# Altium integrated library Linear Technology PMIC-Switching Reg LTC1174-LTC3901.IntLib: 2647 symbols (part 133 of 310)
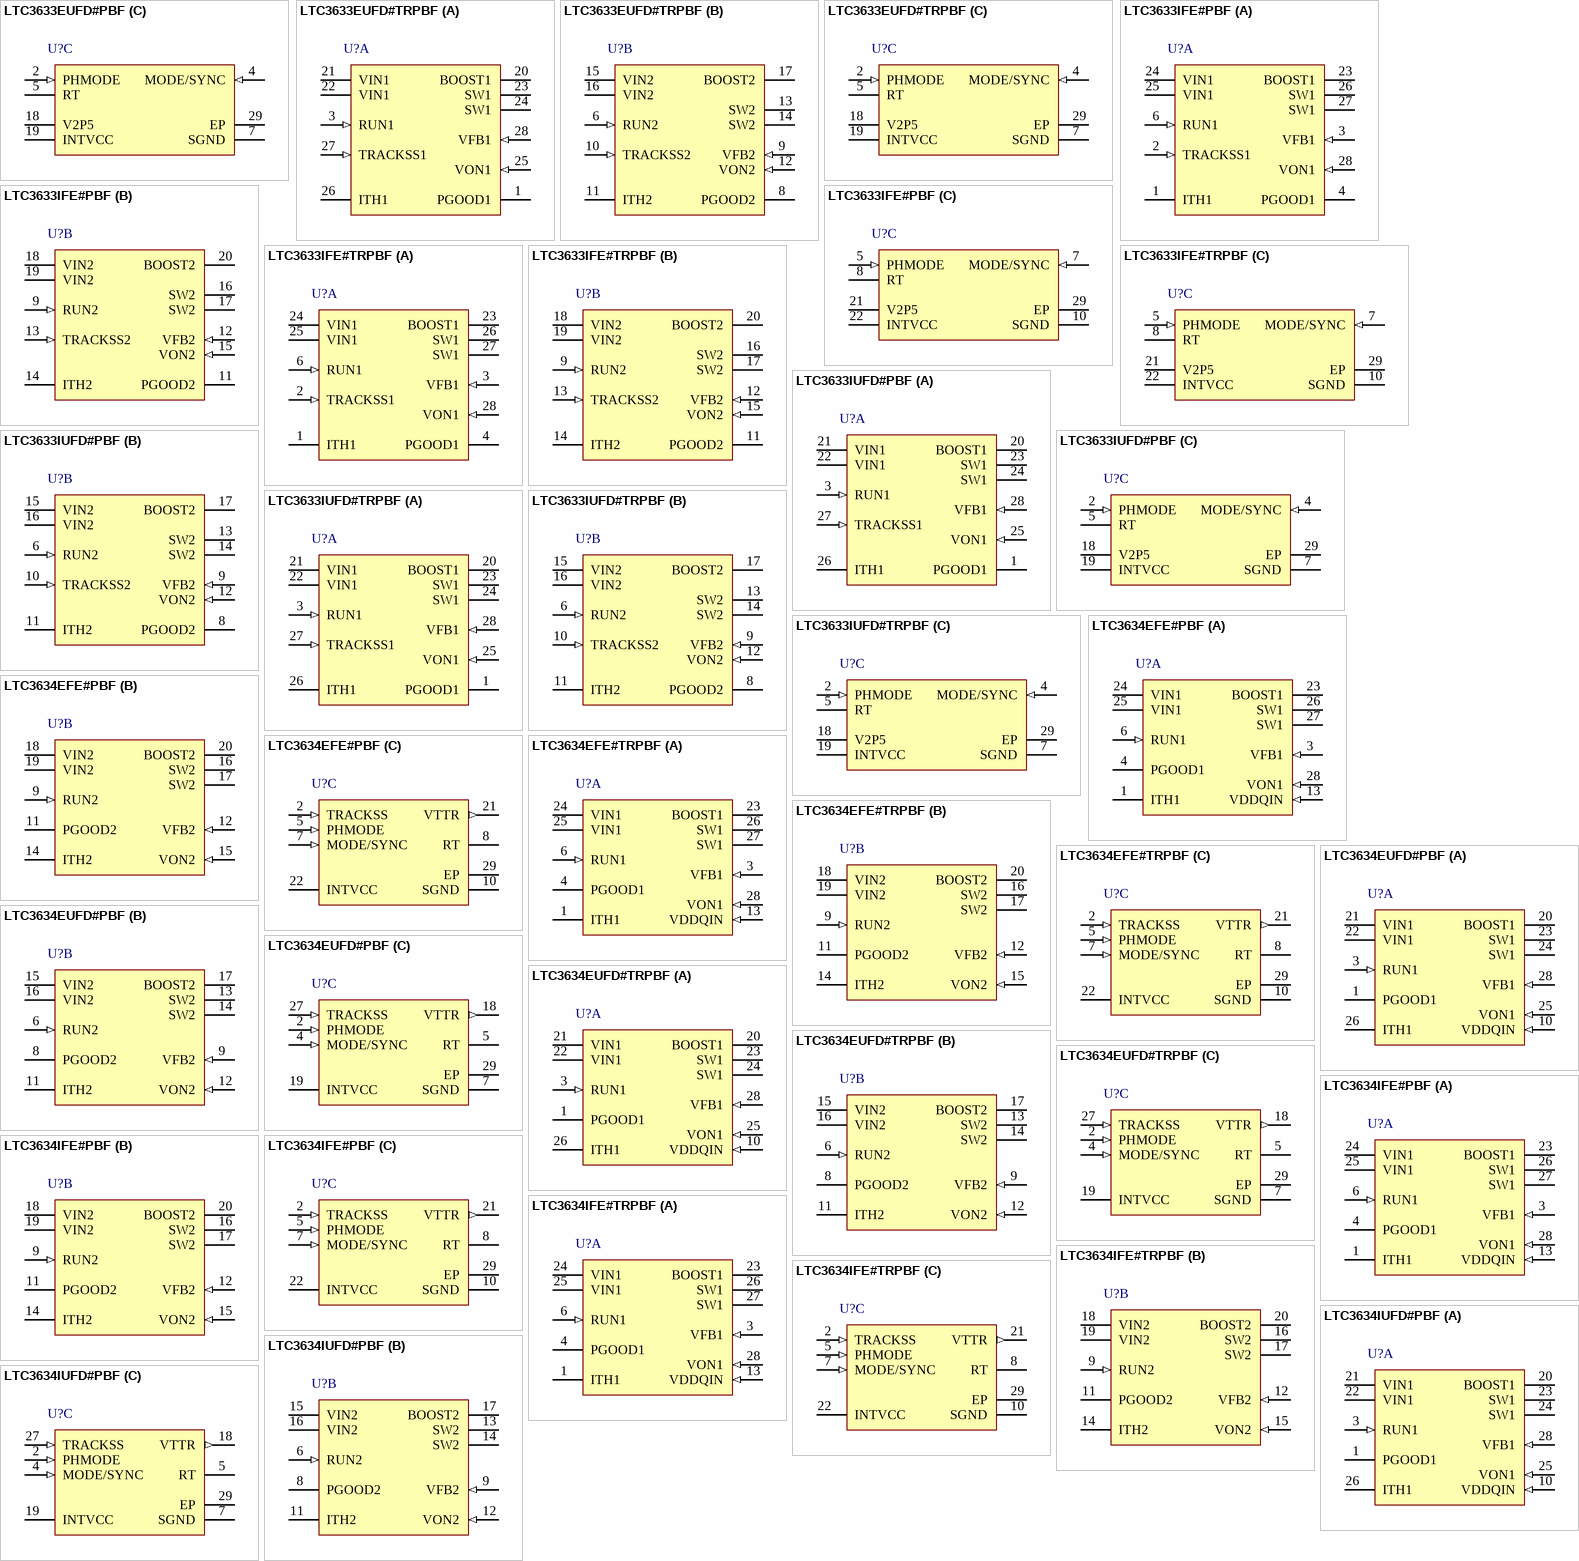
[diagram p191: symbols LTC3633EUFD#PBF to LTC3634IUFD#PBF]

## LTC3634EUFD#PBF
designator U?
Dual 3 A Monolithic Step-Down Regulator for DDR Power, 28-pin QFN (UFD-28), -40 to 125 degC, Pb-Free; Manufacturer: Linear Technology; PartNumber: LTC3634EUFD#PBF; Number of Outputs: 3; PackageReference: UFD-28; PackageDescription: 28-Pin Plastic QFN, Body 5 x 4 mm, Pitch 0.5 mm; Supplier 1: Digi-Key; Supplier Part Number 1: LTC3634EUFD#PBF-ND; RoHS: TRUE; Code_JEDEC: MO-220
footprint LT-UFD-28_N (QFN, 28-Leads, Body 5.1x4.1mm, Pitch 0.5mm, Thermal Pad 3.65x2.65mm, IPC Medium Density)
footprint LT-UFD-28_L (QFN, 28-Leads, Body 5.1x4.1mm, Pitch 0.5mm, Thermal Pad 3.65x2.65mm, IPC High Density)
footprint LT-UFD-28_M (QFN, 28-Leads, Body 5.1x4.1mm, Pitch 0.5mm, Thermal Pad 3.65x2.65mm, IPC Low Density)
part A pins: 1 PGOOD1 (oc) "Channel 1 Open-Drain Power Good Output Pin. PGOOD1 is pulled to ground when the voltage on the VFB1 pin is not within +/-8% (typical) of the internal 0.6V reference. This threshold has 15mV of hysteresis.", 3 RUN1 (in) "Channel 1 Regulator Enable Pin. Enables channel 1 operation by tying RUN1 above 1.22V. Tying it below 1V places the part into shutdown. Do not float this pin.", 10 VDDQIN (in) "External Reference Input for Channel 2. An internal resistor divider sets the VTTR pin voltage to be equal to half the voltage applied to this input. Channel 2 uses the VTTR pin voltage as its error amplifier reference.", 20 BOOST1 "Boosted Floating Driver Supply for Channel 1. The (+) terminal of the bootstrap capacitor connects to this pin while the (-) terminal connects to the SW pin. The normal operation voltage swing of this pin ranges from a diode (See Datasheet)", 21 VIN1 (power) "Power Supply Input for Channel 1. Input voltage to the on-chip power MOSFETs on channel 1. The internal LDO for INTVCC is powered from this pin.", 22 VIN1 (power) "Power Supply Input for Channel 1. Input voltage to the on-chip power MOSFETs on channel 1. The internal LDO for INTVCC is powered from this pin.", 23 SW1 (power) "Channel 1 Switch Node Connection to External Inductor. Voltage swing of SW is from a diode voltage drop below ground to a diode voltage above VIN1.", 24 SW1 (power) "Channel 1 Switch Node Connection to External Inductor. Voltage swing of SW is from a diode voltage drop below ground to a diode voltage above VIN1.", 25 VON1 (in) "On-Time Voltage Input for Channel 1. This pin sets the voltage trip point for the on-time comparator. Tying this pin to the regulated output voltage makes the on-time proportional to VOUT1 when VOUT1 < 3V. When VOUT1 > 3V, (See Datasheet)", 26 ITH1 "Channel 1 Error Amplifier Output and Switching Regulator Compensation Pin. Connect this pin to appropriate external components to compensate the regulator loop frequency response. See the Applications Information section for (See Datasheet)", 28 VFB1 (in) "Channel 1 Output Feedback Voltage Pin. Input to the error amplifier that compares the feedback voltage to the internal 0.6V reference voltage. Connect this pin to a resistor divider network to program the desired output (See Datasheet)"
part B pins: 6 RUN2 (in) "Channel 2 Regulator Enable Pin. Enables channel 2 operation by tying RUN2 above 1.22V. Tying it below 1V places the part into shutdown. Do not float this pin.", 8 PGOOD2 (oc) "Channel 2 Open-Drain Power Good Output Pin. PGOOD2 is pulled to ground when the voltage on the VFB2 pin is not within 8% (typical) of VDDQIN * 0.5. This threshold has 15mV of hysteresis.", 9 VFB2 (in) "Channel 2 Output Feedback Voltage Pin. Input to the error amplifier that compares the feedback voltage to VTTR. Connect this pin directly to the output in order to set VOUT2 equal to VTTR.", 11 ITH2 "Channel 2 Error Amplifier Output and Switching Regulator Compensation Pin. Connect this pin to appropriate external components to compensate the regulator loop frequency response. See the Applications Information section for (See Datasheet)", 12 VON2 (in) "On-Time Voltage Input for Channel 2. This pin sets the voltage trip point for the on-time comparator. Tying this pin to the output voltage makes the on-time proportional to VOUT2 when VOUT2 < 3V. When VOUT2 > 3V, switching (See Datasheet)", 13 SW2 (power) "Channel 2 Switch Node Connection to External Inductor. Voltage swing of SW is from a diode voltage below ground to a diode voltage above VIN2.", 14 SW2 (power) "Channel 2 Switch Node Connection to External Inductor. Voltage swing of SW is from a diode voltage below ground to a diode voltage above VIN2.", 15 VIN2 (power) "Power Supply Input for Channel 2. Input voltage to the on-chip power MOSFETs on channel 2. This input is capable of operating from a supply voltage separate from VIN1.", 16 VIN2 (power) "Power Supply Input for Channel 2. Input voltage to the on-chip power MOSFETs on channel 2. This input is capable of operating from a supply voltage separate from VIN1.", 17 BOOST2 "Boosted Floating Driver Supply for Channel 2. The (+) terminal of the bootstrap capacitor connects to this pin while the (-) terminal connects to the SW pin. The normal operation voltage swing of this pin ranges from a diode (See Datasheet)"
part C pins: 2 PHMODE (in) "Phase Select Input. Tie this pin to ground to force both channels to switch 90degrees out-of-phase. Tie this pin to INTVCC to force both channels to switch 180degrees out-of-phase. Do not float this pin.", 4 MODE/SYNC (in) "Channel 1 Mode Select and External Synchronization Input. Tie this pin to ground to force continuous synchronous operation on Channel 1. Floating this pin or tying it to INTVCC enables high efficiency Burst Mode(R) operation (See Datasheet)", 5 RT "Oscillator Frequency Program Pin. Connect an external resistor (between 80k to 640k) from this pin to SGND in order to program the frequency from 500kHz to 4MHz. When RT is tied to INTVCC, the switching frequency will (See Datasheet)", 7 SGND (power) "Signal Ground Pin. This pin should have a low noise connection to reference ground. The feedback resistor network, external compensation network, and RT resistor should be connected to this ground.", 18 VTTR (out) "Reference Output. This output is used to supply the VREF voltage for DDR memory. An onchip buffer amplifier outputs a low noise reference voltage equal to VDDQIN/2. This output is capable of supplying 10mA. The buffer output (See Datasheet)", 19 INTVCC (power) "Internal 3.3V Regulator Output. The internal gate drivers and control circuits are powered from this voltage. Decouple this pin to power ground with a minimum of 1uF low ESR ceramic capacitor", 27 TRACKSS (in) "Output Tracking and Soft-Start Input Pin for Channel 1. Forcing a voltage below 0.6V on this pin bypasses the internal reference input to the error amplifier. The LTC3634 will servo the FB pin to the TRACK voltage. Above 0.(See Datasheet)", 29 EP (power) "Power Ground Pin. The (-) terminal of the input bypass capacitor, CIN, and the (-) terminal of the output capacitor, COUT, should be tied to this pin with a low impedance connection. This pin must be soldered to the PCB to (See Datasheet)"

## LTC3634EUFD#TRPBF
designator U?
Dual 3 A Monolithic Step-Down Regulator for DDR Power, 28-pin QFN (UFD-28), -40 to 125 degC, Pb-Free, Tape and Reel; Manufacturer: Linear Technology; PartNumber: LTC3634EUFD#TRPBF; Number of Outputs: 3; PackageReference: UFD-28; PackageDescription: 28-Pin Plastic QFN, Body 5 x 4 mm, Pitch 0.5 mm; Supplier 1: Digi-Key; Supplier Part Number 1: LTC3634EUFD#TRPBF-ND; RoHS: TRUE; Code_JEDEC: MO-220
footprint LT-UFD-28_N (QFN, 28-Leads, Body 5.1x4.1mm, Pitch 0.5mm, Thermal Pad 3.65x2.65mm, IPC Medium Density)
footprint LT-UFD-28_L (QFN, 28-Leads, Body 5.1x4.1mm, Pitch 0.5mm, Thermal Pad 3.65x2.65mm, IPC High Density)
footprint LT-UFD-28_M (QFN, 28-Leads, Body 5.1x4.1mm, Pitch 0.5mm, Thermal Pad 3.65x2.65mm, IPC Low Density)
part A pins: 1 PGOOD1 (oc) "Channel 1 Open-Drain Power Good Output Pin. PGOOD1 is pulled to ground when the voltage on the VFB1 pin is not within +/-8% (typical) of the internal 0.6V reference. This threshold has 15mV of hysteresis.", 3 RUN1 (in) "Channel 1 Regulator Enable Pin. Enables channel 1 operation by tying RUN1 above 1.22V. Tying it below 1V places the part into shutdown. Do not float this pin.", 10 VDDQIN (in) "External Reference Input for Channel 2. An internal resistor divider sets the VTTR pin voltage to be equal to half the voltage applied to this input. Channel 2 uses the VTTR pin voltage as its error amplifier reference.", 20 BOOST1 "Boosted Floating Driver Supply for Channel 1. The (+) terminal of the bootstrap capacitor connects to this pin while the (-) terminal connects to the SW pin. The normal operation voltage swing of this pin ranges from a diode (See Datasheet)", 21 VIN1 (power) "Power Supply Input for Channel 1. Input voltage to the on-chip power MOSFETs on channel 1. The internal LDO for INTVCC is powered from this pin.", 22 VIN1 (power) "Power Supply Input for Channel 1. Input voltage to the on-chip power MOSFETs on channel 1. The internal LDO for INTVCC is powered from this pin.", 23 SW1 (power) "Channel 1 Switch Node Connection to External Inductor. Voltage swing of SW is from a diode voltage drop below ground to a diode voltage above VIN1.", 24 SW1 (power) "Channel 1 Switch Node Connection to External Inductor. Voltage swing of SW is from a diode voltage drop below ground to a diode voltage above VIN1.", 25 VON1 (in) "On-Time Voltage Input for Channel 1. This pin sets the voltage trip point for the on-time comparator. Tying this pin to the regulated output voltage makes the on-time proportional to VOUT1 when VOUT1 < 3V. When VOUT1 > 3V, (See Datasheet)", 26 ITH1 "Channel 1 Error Amplifier Output and Switching Regulator Compensation Pin. Connect this pin to appropriate external components to compensate the regulator loop frequency response. See the Applications Information section for (See Datasheet)", 28 VFB1 (in) "Channel 1 Output Feedback Voltage Pin. Input to the error amplifier that compares the feedback voltage to the internal 0.6V reference voltage. Connect this pin to a resistor divider network to program the desired output (See Datasheet)"
part B pins: 6 RUN2 (in) "Channel 2 Regulator Enable Pin. Enables channel 2 operation by tying RUN2 above 1.22V. Tying it below 1V places the part into shutdown. Do not float this pin.", 8 PGOOD2 (oc) "Channel 2 Open-Drain Power Good Output Pin. PGOOD2 is pulled to ground when the voltage on the VFB2 pin is not within 8% (typical) of VDDQIN * 0.5. This threshold has 15mV of hysteresis.", 9 VFB2 (in) "Channel 2 Output Feedback Voltage Pin. Input to the error amplifier that compares the feedback voltage to VTTR. Connect this pin directly to the output in order to set VOUT2 equal to VTTR.", 11 ITH2 "Channel 2 Error Amplifier Output and Switching Regulator Compensation Pin. Connect this pin to appropriate external components to compensate the regulator loop frequency response. See the Applications Information section for (See Datasheet)", 12 VON2 (in) "On-Time Voltage Input for Channel 2. This pin sets the voltage trip point for the on-time comparator. Tying this pin to the output voltage makes the on-time proportional to VOUT2 when VOUT2 < 3V. When VOUT2 > 3V, switching (See Datasheet)", 13 SW2 (power) "Channel 2 Switch Node Connection to External Inductor. Voltage swing of SW is from a diode voltage below ground to a diode voltage above VIN2.", 14 SW2 (power) "Channel 2 Switch Node Connection to External Inductor. Voltage swing of SW is from a diode voltage below ground to a diode voltage above VIN2.", 15 VIN2 (power) "Power Supply Input for Channel 2. Input voltage to the on-chip power MOSFETs on channel 2. This input is capable of operating from a supply voltage separate from VIN1.", 16 VIN2 (power) "Power Supply Input for Channel 2. Input voltage to the on-chip power MOSFETs on channel 2. This input is capable of operating from a supply voltage separate from VIN1.", 17 BOOST2 "Boosted Floating Driver Supply for Channel 2. The (+) terminal of the bootstrap capacitor connects to this pin while the (-) terminal connects to the SW pin. The normal operation voltage swing of this pin ranges from a diode (See Datasheet)"
part C pins: 2 PHMODE (in) "Phase Select Input. Tie this pin to ground to force both channels to switch 90degrees out-of-phase. Tie this pin to INTVCC to force both channels to switch 180degrees out-of-phase. Do not float this pin.", 4 MODE/SYNC (in) "Channel 1 Mode Select and External Synchronization Input. Tie this pin to ground to force continuous synchronous operation on Channel 1. Floating this pin or tying it to INTVCC enables high efficiency Burst Mode(R) operation (See Datasheet)", 5 RT "Oscillator Frequency Program Pin. Connect an external resistor (between 80k to 640k) from this pin to SGND in order to program the frequency from 500kHz to 4MHz. When RT is tied to INTVCC, the switching frequency will (See Datasheet)", 7 SGND (power) "Signal Ground Pin. This pin should have a low noise connection to reference ground. The feedback resistor network, external compensation network, and RT resistor should be connected to this ground.", 18 VTTR (out) "Reference Output. This output is used to supply the VREF voltage for DDR memory. An onchip buffer amplifier outputs a low noise reference voltage equal to VDDQIN/2. This output is capable of supplying 10mA. The buffer output (See Datasheet)", 19 INTVCC (power) "Internal 3.3V Regulator Output. The internal gate drivers and control circuits are powered from this voltage. Decouple this pin to power ground with a minimum of 1uF low ESR ceramic capacitor", 27 TRACKSS (in) "Output Tracking and Soft-Start Input Pin for Channel 1. Forcing a voltage below 0.6V on this pin bypasses the internal reference input to the error amplifier. The LTC3634 will servo the FB pin to the TRACK voltage. Above 0.(See Datasheet)", 29 EP (power) "Power Ground Pin. The (-) terminal of the input bypass capacitor, CIN, and the (-) terminal of the output capacitor, COUT, should be tied to this pin with a low impedance connection. This pin must be soldered to the PCB to (See Datasheet)"

## LTC3634IFE#PBF
designator U?
Dual 3 A Monolithic Step-Down Regulator for DDR Power, 28-pin SOP (FE-28-EPV-EB), -40 to 125 degC, Pb-Free; Manufacturer: Linear Technology; PartNumber: LTC3634IFE#PBF; Number of Outputs: 3; PackageReference: FE-28; PackageDescription: 28-Pin Plastic TSSOP, Body 9.7 x 4.4 mm, Pitch 0.65 mm; Supplier 1: Digi-Key; Supplier Part Number 1: LTC3634IFE#PBF-ND; RoHS: TRUE
footprint LT-FE-28-EPV-EB_N (SOP, 28-Leads, Body 9.8x4.5mm, Pitch 0.65mm, Thermal Pad 4.75x2.74mm, IPC Medium Density)
footprint LT-FE-28-EPV-EB_L (SOP, 28-Leads, Body 9.8x4.5mm, Pitch 0.65mm, Thermal Pad 4.75x2.74mm, IPC High Density)
footprint LT-FE-28-EPV-EB_M (SOP, 28-Leads, Body 9.8x4.5mm, Pitch 0.65mm, Thermal Pad 4.75x2.74mm, IPC Low Density)
part A pins: 1 ITH1 "Channel 1 Error Amplifier Output and Switching Regulator Compensation Pin. Connect this pin to appropriate external components to compensate the regulator loop frequency response. See the Applications Information section for (See Datasheet)", 3 VFB1 (in) "Channel 1 Output Feedback Voltage Pin. Input to the error amplifier that compares the feedback voltage to the internal 0.6V reference voltage. Connect this pin to a resistor divider network to program the desired output (See Datasheet)", 4 PGOOD1 (oc) "Channel 1 Open-Drain Power Good Output Pin. PGOOD1 is pulled to ground when the voltage on the VFB1 pin is not within +/-8% (typical) of the internal 0.6V reference. This threshold has 15mV of hysteresis.", 6 RUN1 (in) "Channel 1 Regulator Enable Pin. Enables channel 1 operation by tying RUN1 above 1.22V. Tying it below 1V places the part into shutdown. Do not float this pin.", 13 VDDQIN (in) "External Reference Input for Channel 2. An internal resistor divider sets the VTTR pin voltage to be equal to half the voltage applied to this input. Channel 2 uses the VTTR pin voltage as its error amplifier reference.", 23 BOOST1 "Boosted Floating Driver Supply for Channel 1. The (+) terminal of the bootstrap capacitor connects to this pin while the (-) terminal connects to the SW pin. The normal operation voltage swing of this pin ranges from a diode (See Datasheet)", 24 VIN1 (power) "Power Supply Input for Channel 1. Input voltage to the on-chip power MOSFETs on channel 1. The internal LDO for INTVCC is powered from this pin.", 25 VIN1 (power) "Power Supply Input for Channel 1. Input voltage to the on-chip power MOSFETs on channel 1. The internal LDO for INTVCC is powered from this pin.", 26 SW1 (power) "Channel 1 Switch Node Connection to External Inductor. Voltage swing of SW is from a diode voltage drop below ground to a diode voltage above VIN1.", 27 SW1 (power) "Channel 1 Switch Node Connection to External Inductor. Voltage swing of SW is from a diode voltage drop below ground to a diode voltage above VIN1.", 28 VON1 (in) "On-Time Voltage Input for Channel 1. This pin sets the voltage trip point for the on-time comparator. Tying this pin to the regulated output voltage makes the on-time proportional to VOUT1 when VOUT1 < 3V. When VOUT1 > 3V, (See Datasheet)"
part B pins: 9 RUN2 (in) "Channel 2 Regulator Enable Pin. Enables channel 2 operation by tying RUN2 above 1.22V. Tying it below 1V places the part into shutdown. Do not float this pin.", 11 PGOOD2 (oc) "Channel 2 Open-Drain Power Good Output Pin. PGOOD2 is pulled to ground when the voltage on the VFB2 pin is not within 8% (typical) of VDDQIN ?0.5. This threshold has 15mV of hysteresis.", 12 VFB2 (in) "Channel 2 Output Feedback Voltage Pin. Input to the error amplifier that compares the feedback voltage to VTTR. Connect this pin directly to the output in order to set VOUT2 equal to VTTR.", 14 ITH2 "Channel 2 Error Amplifier Output and Switching Regulator Compensation Pin. Connect this pin to appropriate external components to compensate the regulator loop frequency response. See the Applications Information section for (See Datasheet)", 15 VON2 (in) "On-Time Voltage Input for Channel 2. This pin sets the voltage trip point for the on-time comparator. Tying this pin to the output voltage makes the on-time proportional to VOUT2 when VOUT2 < 3V. When VOUT2 > 3V, switching (See Datasheet)", 16 SW2 (power) "Channel 2 Switch Node Connection to External Inductor. Voltage swing of SW is from a diode voltage below ground to a diode voltage above VIN2.", 17 SW2 (power) "Channel 2 Switch Node Connection to External Inductor. Voltage swing of SW is from a diode voltage below ground to a diode voltage above VIN2.", 18 VIN2 (power) "Power Supply Input for Channel 2. Input voltage to the on-chip power MOSFETs on channel 2. This input is capable of operating from a supply voltage separate from VIN1.", 19 VIN2 (power) "Power Supply Input for Channel 2. Input voltage to the on-chip power MOSFETs on channel 2. This input is capable of operating from a supply voltage separate from VIN1.", 20 BOOST2 "Boosted Floating Driver Supply for Channel 2. The (+) terminal of the bootstrap capacitor connects to this pin while the (-) terminal connects to the SW pin. The normal operation voltage swing of this pin ranges from a diode (See Datasheet)"
part C pins: 2 TRACKSS (in) "Output Tracking and Soft-Start Input Pin for Channel 1. Forcing a voltage below 0.6V on this pin bypasses the internal reference input to the error amplifier. The LTC3634 will servo the FB pin to the TRACK voltage. Above 0.(See Datasheet)", 5 PHMODE (in) "Phase Select Input. Tie this pin to ground to force both channels to switch 90degrees out-of-phase. Tie this pin to INTVCC to force both channels to switch 180degrees out-of-phase. Do not float this pin.", 7 MODE/SYNC (in) "Channel 1 Mode Select and External Synchronization Input. Tie this pin to ground to force continuous synchronous operation on Channel 1. Floating this pin or tying it to INTVCC enables high efficiency Burst Mode(R) operation (See Datasheet)", 8 RT "Oscillator Frequency Program Pin. Connect an external resistor (between 80k to 640k) from this pin to SGND in order to program the frequency from 500kHz to 4MHz. When RT is tied to INTVCC, the switching frequency will (See Datasheet)", 10 SGND (power) "Signal Ground Pin. This pin should have a low noise connection to reference ground. The feedback resistor network, external compensation network, and RT resistor should be connected to this ground.", 21 VTTR (out) "Reference Output. This output is used to supply the VREF voltage for DDR memory. An onchip buffer amplifier outputs a low noise reference voltage equal to VDDQIN/2. This output is capable of supplying 10mA. The buffer output (See Datasheet)", 22 INTVCC (power) "Internal 3.3V Regulator Output. The internal gate drivers and control circuits are powered from this voltage. Decouple this pin to power ground with a minimum of 1uF low ESR ceramic capacitor", 29 EP (power) "Power Ground Pin. The (-) terminal of the input bypass capacitor, CIN, and the (-) terminal of the output capacitor, COUT, should be tied to this pin with a low impedance connection. This pin must be soldered to the PCB to (See Datasheet)"

## LTC3634IFE#TRPBF
designator U?
Dual 3 A Monolithic Step-Down Regulator for DDR Power, 28-pin SOP (FE-28-EPV-EB), -40 to 125 degC, Pb-Free, Tape and Reel; Manufacturer: Linear Technology; PartNumber: LTC3634IFE#TRPBF; Number of Outputs: 3; PackageReference: FE-28; PackageDescription: 28-Pin Plastic TSSOP, Body 9.7 x 4.4 mm, Pitch 0.65 mm; Supplier 1: Digi-Key; Supplier Part Number 1: LTC3634IFE#TRPBF-ND; RoHS: TRUE
footprint LT-FE-28-EPV-EB_N (SOP, 28-Leads, Body 9.8x4.5mm, Pitch 0.65mm, Thermal Pad 4.75x2.74mm, IPC Medium Density)
footprint LT-FE-28-EPV-EB_L (SOP, 28-Leads, Body 9.8x4.5mm, Pitch 0.65mm, Thermal Pad 4.75x2.74mm, IPC High Density)
footprint LT-FE-28-EPV-EB_M (SOP, 28-Leads, Body 9.8x4.5mm, Pitch 0.65mm, Thermal Pad 4.75x2.74mm, IPC Low Density)
part A pins: 1 ITH1 "Channel 1 Error Amplifier Output and Switching Regulator Compensation Pin. Connect this pin to appropriate external components to compensate the regulator loop frequency response. See the Applications Information section for (See Datasheet)", 3 VFB1 (in) "Channel 1 Output Feedback Voltage Pin. Input to the error amplifier that compares the feedback voltage to the internal 0.6V reference voltage. Connect this pin to a resistor divider network to program the desired output (See Datasheet)", 4 PGOOD1 (oc) "Channel 1 Open-Drain Power Good Output Pin. PGOOD1 is pulled to ground when the voltage on the VFB1 pin is not within +/-8% (typical) of the internal 0.6V reference. This threshold has 15mV of hysteresis.", 6 RUN1 (in) "Channel 1 Regulator Enable Pin. Enables channel 1 operation by tying RUN1 above 1.22V. Tying it below 1V places the part into shutdown. Do not float this pin.", 13 VDDQIN (in) "External Reference Input for Channel 2. An internal resistor divider sets the VTTR pin voltage to be equal to half the voltage applied to this input. Channel 2 uses the VTTR pin voltage as its error amplifier reference.", 23 BOOST1 "Boosted Floating Driver Supply for Channel 1. The (+) terminal of the bootstrap capacitor connects to this pin while the (-) terminal connects to the SW pin. The normal operation voltage swing of this pin ranges from a diode (See Datasheet)", 24 VIN1 (power) "Power Supply Input for Channel 1. Input voltage to the on-chip power MOSFETs on channel 1. The internal LDO for INTVCC is powered from this pin.", 25 VIN1 (power) "Power Supply Input for Channel 1. Input voltage to the on-chip power MOSFETs on channel 1. The internal LDO for INTVCC is powered from this pin.", 26 SW1 (power) "Channel 1 Switch Node Connection to External Inductor. Voltage swing of SW is from a diode voltage drop below ground to a diode voltage above VIN1.", 27 SW1 (power) "Channel 1 Switch Node Connection to External Inductor. Voltage swing of SW is from a diode voltage drop below ground to a diode voltage above VIN1.", 28 VON1 (in) "On-Time Voltage Input for Channel 1. This pin sets the voltage trip point for the on-time comparator. Tying this pin to the regulated output voltage makes the on-time proportional to VOUT1 when VOUT1 < 3V. When VOUT1 > 3V, (See Datasheet)"
part B pins: 9 RUN2 (in) "Channel 2 Regulator Enable Pin. Enables channel 2 operation by tying RUN2 above 1.22V. Tying it below 1V places the part into shutdown. Do not float this pin.", 11 PGOOD2 (oc) "Channel 2 Open-Drain Power Good Output Pin. PGOOD2 is pulled to ground when the voltage on the VFB2 pin is not within 8% (typical) of VDDQIN ?0.5. This threshold has 15mV of hysteresis.", 12 VFB2 (in) "Channel 2 Output Feedback Voltage Pin. Input to the error amplifier that compares the feedback voltage to VTTR. Connect this pin directly to the output in order to set VOUT2 equal to VTTR.", 14 ITH2 "Channel 2 Error Amplifier Output and Switching Regulator Compensation Pin. Connect this pin to appropriate external components to compensate the regulator loop frequency response. See the Applications Information section for (See Datasheet)", 15 VON2 (in) "On-Time Voltage Input for Channel 2. This pin sets the voltage trip point for the on-time comparator. Tying this pin to the output voltage makes the on-time proportional to VOUT2 when VOUT2 < 3V. When VOUT2 > 3V, switching (See Datasheet)", 16 SW2 (power) "Channel 2 Switch Node Connection to External Inductor. Voltage swing of SW is from a diode voltage below ground to a diode voltage above VIN2.", 17 SW2 (power) "Channel 2 Switch Node Connection to External Inductor. Voltage swing of SW is from a diode voltage below ground to a diode voltage above VIN2.", 18 VIN2 (power) "Power Supply Input for Channel 2. Input voltage to the on-chip power MOSFETs on channel 2. This input is capable of operating from a supply voltage separate from VIN1.", 19 VIN2 (power) "Power Supply Input for Channel 2. Input voltage to the on-chip power MOSFETs on channel 2. This input is capable of operating from a supply voltage separate from VIN1.", 20 BOOST2 "Boosted Floating Driver Supply for Channel 2. The (+) terminal of the bootstrap capacitor connects to this pin while the (-) terminal connects to the SW pin. The normal operation voltage swing of this pin ranges from a diode (See Datasheet)"
part C pins: 2 TRACKSS (in) "Output Tracking and Soft-Start Input Pin for Channel 1. Forcing a voltage below 0.6V on this pin bypasses the internal reference input to the error amplifier. The LTC3634 will servo the FB pin to the TRACK voltage. Above 0.(See Datasheet)", 5 PHMODE (in) "Phase Select Input. Tie this pin to ground to force both channels to switch 90degrees out-of-phase. Tie this pin to INTVCC to force both channels to switch 180degrees out-of-phase. Do not float this pin.", 7 MODE/SYNC (in) "Channel 1 Mode Select and External Synchronization Input. Tie this pin to ground to force continuous synchronous operation on Channel 1. Floating this pin or tying it to INTVCC enables high efficiency Burst Mode(R) operation (See Datasheet)", 8 RT "Oscillator Frequency Program Pin. Connect an external resistor (between 80k to 640k) from this pin to SGND in order to program the frequency from 500kHz to 4MHz. When RT is tied to INTVCC, the switching frequency will (See Datasheet)", 10 SGND (power) "Signal Ground Pin. This pin should have a low noise connection to reference ground. The feedback resistor network, external compensation network, and RT resistor should be connected to this ground.", 21 VTTR (out) "Reference Output. This output is used to supply the VREF voltage for DDR memory. An onchip buffer amplifier outputs a low noise reference voltage equal to VDDQIN/2. This output is capable of supplying 10mA. The buffer output (See Datasheet)", 22 INTVCC (power) "Internal 3.3V Regulator Output. The internal gate drivers and control circuits are powered from this voltage. Decouple this pin to power ground with a minimum of 1uF low ESR ceramic capacitor", 29 EP (power) "Power Ground Pin. The (-) terminal of the input bypass capacitor, CIN, and the (-) terminal of the output capacitor, COUT, should be tied to this pin with a low impedance connection. This pin must be soldered to the PCB to (See Datasheet)"

## LTC3634IUFD#PBF
designator U?
Dual 3 A Monolithic Step-Down Regulator for DDR Power, 28-pin QFN (UFD-28), -40 to 125 degC, Pb-Free; Manufacturer: Linear Technology; PartNumber: LTC3634IUFD#PBF; Number of Outputs: 3; PackageReference: UFD-28; PackageDescription: 28-Pin Plastic QFN, Body 5 x 4 mm, Pitch 0.5 mm; Supplier 1: Digi-Key; Supplier Part Number 1: LTC3634IUFD#PBF-ND; RoHS: TRUE; Code_JEDEC: MO-220
footprint LT-UFD-28_N (QFN, 28-Leads, Body 5.1x4.1mm, Pitch 0.5mm, Thermal Pad 3.65x2.65mm, IPC Medium Density)
footprint LT-UFD-28_L (QFN, 28-Leads, Body 5.1x4.1mm, Pitch 0.5mm, Thermal Pad 3.65x2.65mm, IPC High Density)
footprint LT-UFD-28_M (QFN, 28-Leads, Body 5.1x4.1mm, Pitch 0.5mm, Thermal Pad 3.65x2.65mm, IPC Low Density)
part A pins: 1 PGOOD1 (oc) "Channel 1 Open-Drain Power Good Output Pin. PGOOD1 is pulled to ground when the voltage on the VFB1 pin is not within +/-8% (typical) of the internal 0.6V reference. This threshold has 15mV of hysteresis.", 3 RUN1 (in) "Channel 1 Regulator Enable Pin. Enables channel 1 operation by tying RUN1 above 1.22V. Tying it below 1V places the part into shutdown. Do not float this pin.", 10 VDDQIN (in) "External Reference Input for Channel 2. An internal resistor divider sets the VTTR pin voltage to be equal to half the voltage applied to this input. Channel 2 uses the VTTR pin voltage as its error amplifier reference.", 20 BOOST1 "Boosted Floating Driver Supply for Channel 1. The (+) terminal of the bootstrap capacitor connects to this pin while the (-) terminal connects to the SW pin. The normal operation voltage swing of this pin ranges from a diode (See Datasheet)", 21 VIN1 (power) "Power Supply Input for Channel 1. Input voltage to the on-chip power MOSFETs on channel 1. The internal LDO for INTVCC is powered from this pin.", 22 VIN1 (power) "Power Supply Input for Channel 1. Input voltage to the on-chip power MOSFETs on channel 1. The internal LDO for INTVCC is powered from this pin.", 23 SW1 (power) "Channel 1 Switch Node Connection to External Inductor. Voltage swing of SW is from a diode voltage drop below ground to a diode voltage above VIN1.", 24 SW1 (power) "Channel 1 Switch Node Connection to External Inductor. Voltage swing of SW is from a diode voltage drop below ground to a diode voltage above VIN1.", 25 VON1 (in) "On-Time Voltage Input for Channel 1. This pin sets the voltage trip point for the on-time comparator. Tying this pin to the regulated output voltage makes the on-time proportional to VOUT1 when VOUT1 < 3V. When VOUT1 > 3V, (See Datasheet)", 26 ITH1 "Channel 1 Error Amplifier Output and Switching Regulator Compensation Pin. Connect this pin to appropriate external components to compensate the regulator loop frequency response. See the Applications Information section for (See Datasheet)", 28 VFB1 (in) "Channel 1 Output Feedback Voltage Pin. Input to the error amplifier that compares the feedback voltage to the internal 0.6V reference voltage. Connect this pin to a resistor divider network to program the desired output (See Datasheet)"
part B pins: 6 RUN2 (in) "Channel 2 Regulator Enable Pin. Enables channel 2 operation by tying RUN2 above 1.22V. Tying it below 1V places the part into shutdown. Do not float this pin.", 8 PGOOD2 (oc) "Channel 2 Open-Drain Power Good Output Pin. PGOOD2 is pulled to ground when the voltage on the VFB2 pin is not within 8% (typical) of VDDQIN * 0.5. This threshold has 15mV of hysteresis.", 9 VFB2 (in) "Channel 2 Output Feedback Voltage Pin. Input to the error amplifier that compares the feedback voltage to VTTR. Connect this pin directly to the output in order to set VOUT2 equal to VTTR.", 11 ITH2 "Channel 2 Error Amplifier Output and Switching Regulator Compensation Pin. Connect this pin to appropriate external components to compensate the regulator loop frequency response. See the Applications Information section for (See Datasheet)", 12 VON2 (in) "On-Time Voltage Input for Channel 2. This pin sets the voltage trip point for the on-time comparator. Tying this pin to the output voltage makes the on-time proportional to VOUT2 when VOUT2 < 3V. When VOUT2 > 3V, switching (See Datasheet)", 13 SW2 (power) "Channel 2 Switch Node Connection to External Inductor. Voltage swing of SW is from a diode voltage below ground to a diode voltage above VIN2.", 14 SW2 (power) "Channel 2 Switch Node Connection to External Inductor. Voltage swing of SW is from a diode voltage below ground to a diode voltage above VIN2.", 15 VIN2 (power) "Power Supply Input for Channel 2. Input voltage to the on-chip power MOSFETs on channel 2. This input is capable of operating from a supply voltage separate from VIN1.", 16 VIN2 (power) "Power Supply Input for Channel 2. Input voltage to the on-chip power MOSFETs on channel 2. This input is capable of operating from a supply voltage separate from VIN1.", 17 BOOST2 "Boosted Floating Driver Supply for Channel 2. The (+) terminal of the bootstrap capacitor connects to this pin while the (-) terminal connects to the SW pin. The normal operation voltage swing of this pin ranges from a diode (See Datasheet)"
part C pins: 2 PHMODE (in) "Phase Select Input. Tie this pin to ground to force both channels to switch 90degrees out-of-phase. Tie this pin to INTVCC to force both channels to switch 180degrees out-of-phase. Do not float this pin.", 4 MODE/SYNC (in) "Channel 1 Mode Select and External Synchronization Input. Tie this pin to ground to force continuous synchronous operation on Channel 1. Floating this pin or tying it to INTVCC enables high efficiency Burst Mode(R) operation (See Datasheet)", 5 RT "Oscillator Frequency Program Pin. Connect an external resistor (between 80k to 640k) from this pin to SGND in order to program the frequency from 500kHz to 4MHz. When RT is tied to INTVCC, the switching frequency will (See Datasheet)", 7 SGND (power) "Signal Ground Pin. This pin should have a low noise connection to reference ground. The feedback resistor network, external compensation network, and RT resistor should be connected to this ground.", 18 VTTR (out) "Reference Output. This output is used to supply the VREF voltage for DDR memory. An onchip buffer amplifier outputs a low noise reference voltage equal to VDDQIN/2. This output is capable of supplying 10mA. The buffer output (See Datasheet)", 19 INTVCC (power) "Internal 3.3V Regulator Output. The internal gate drivers and control circuits are powered from this voltage. Decouple this pin to power ground with a minimum of 1uF low ESR ceramic capacitor", 27 TRACKSS (in) "Output Tracking and Soft-Start Input Pin for Channel 1. Forcing a voltage below 0.6V on this pin bypasses the internal reference input to the error amplifier. The LTC3634 will servo the FB pin to the TRACK voltage. Above 0.(See Datasheet)", 29 EP (power) "Power Ground Pin. The (-) terminal of the input bypass capacitor, CIN, and the (-) terminal of the output capacitor, COUT, should be tied to this pin with a low impedance connection. This pin must be soldered to the PCB to (See Datasheet)"

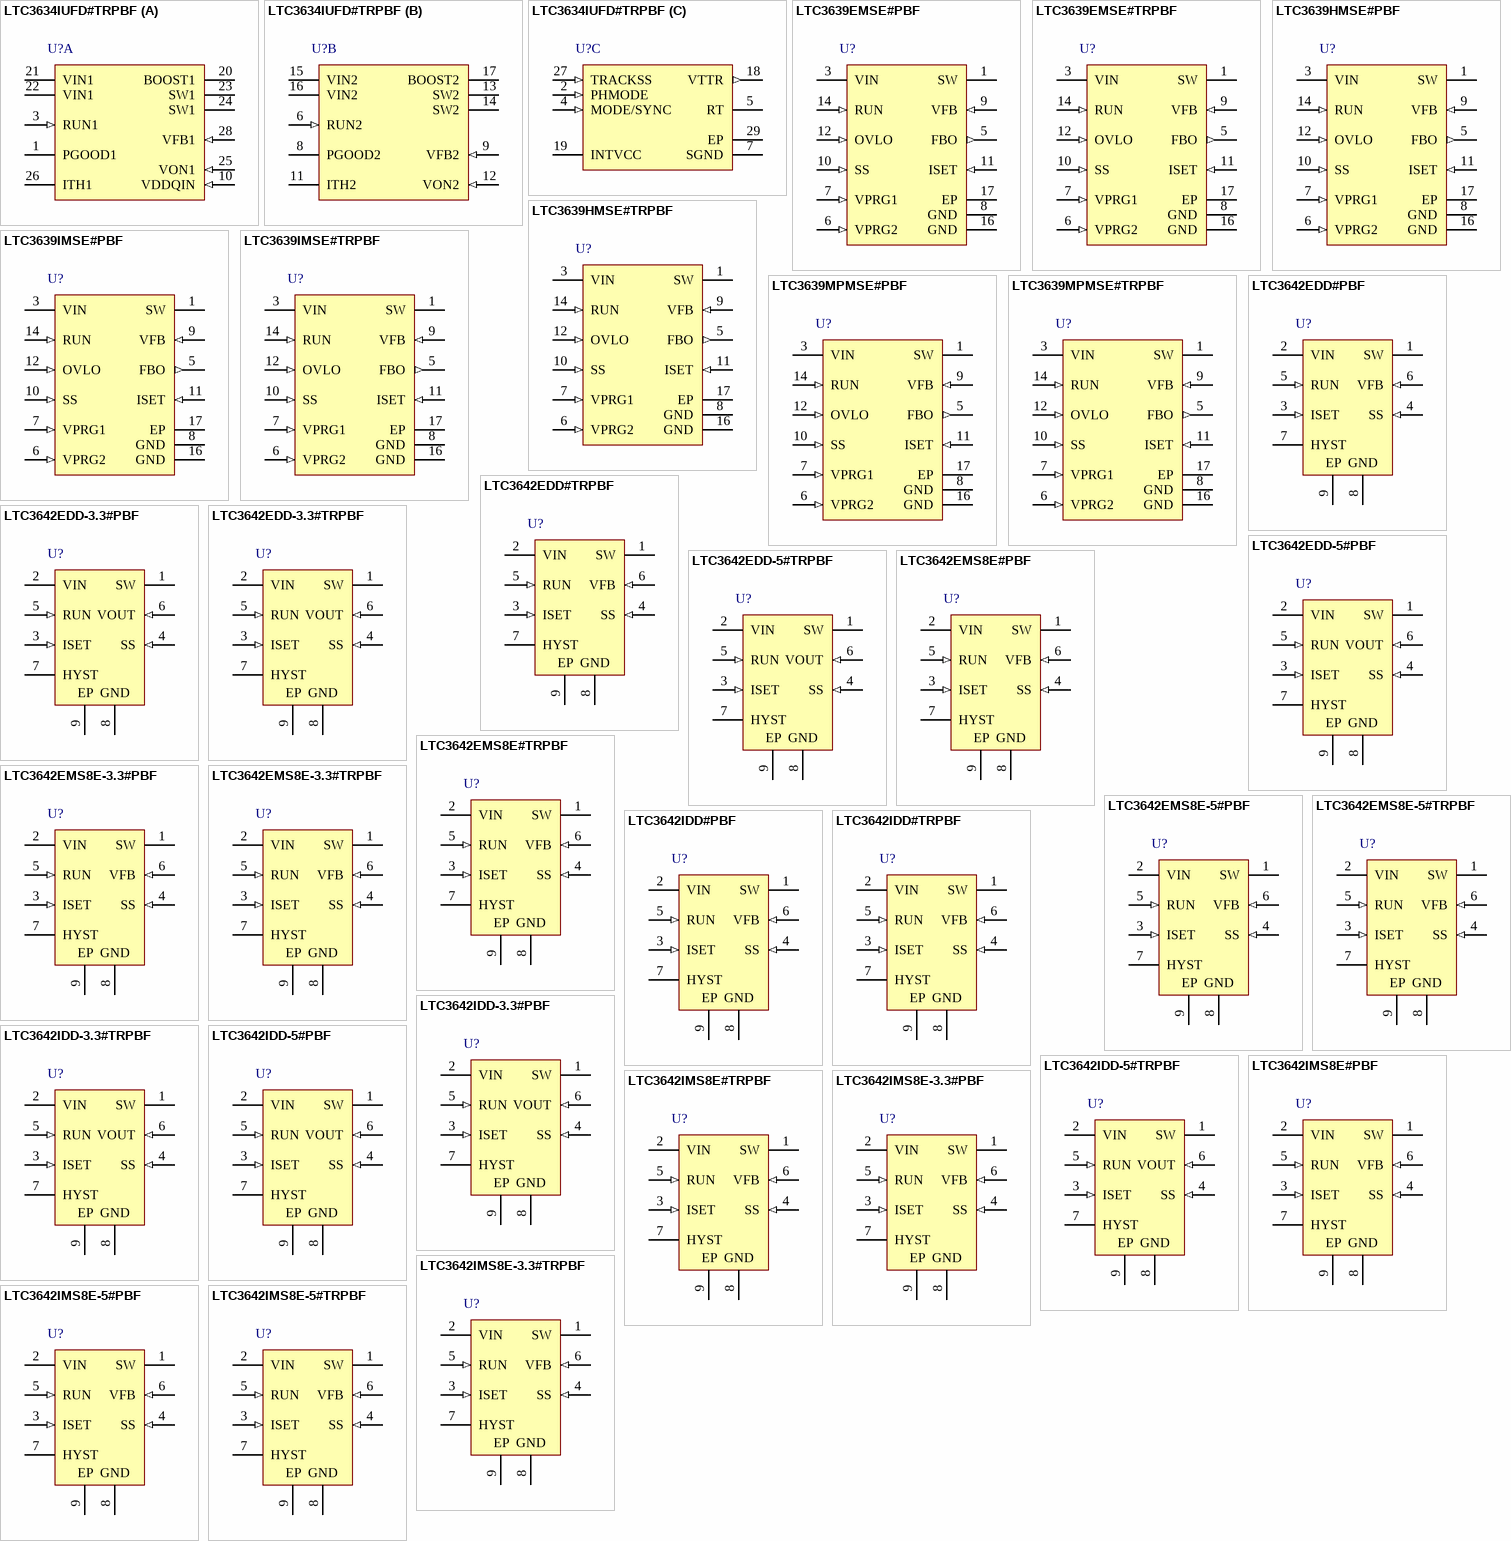
[diagram p48: symbols LTC3634IUFD#TRPBF to LTC3642IMS8E-5#TRPBF]

## LTC3634IUFD#TRPBF
designator U?
Dual 3 A Monolithic Step-Down Regulator for DDR Power, 28-pin QFN (UFD-28), -40 to 125 degC, Pb-Free, Tape and Reel; Manufacturer: Linear Technology; PartNumber: LTC3634IUFD#TRPBF; Number of Outputs: 3; PackageReference: UFD-28; PackageDescription: 28-Pin Plastic QFN, Body 5 x 4 mm, Pitch 0.5 mm; Supplier 1: Digi-Key; Supplier Part Number 1: LTC3634IUFD#TRPBF-ND; RoHS: TRUE; Code_JEDEC: MO-220
footprint LT-UFD-28_N (QFN, 28-Leads, Body 5.1x4.1mm, Pitch 0.5mm, Thermal Pad 3.65x2.65mm, IPC Medium Density)
footprint LT-UFD-28_L (QFN, 28-Leads, Body 5.1x4.1mm, Pitch 0.5mm, Thermal Pad 3.65x2.65mm, IPC High Density)
footprint LT-UFD-28_M (QFN, 28-Leads, Body 5.1x4.1mm, Pitch 0.5mm, Thermal Pad 3.65x2.65mm, IPC Low Density)
part A pins: 1 PGOOD1 (oc) "Channel 1 Open-Drain Power Good Output Pin. PGOOD1 is pulled to ground when the voltage on the VFB1 pin is not within +/-8% (typical) of the internal 0.6V reference. This threshold has 15mV of hysteresis.", 3 RUN1 (in) "Channel 1 Regulator Enable Pin. Enables channel 1 operation by tying RUN1 above 1.22V. Tying it below 1V places the part into shutdown. Do not float this pin.", 10 VDDQIN (in) "External Reference Input for Channel 2. An internal resistor divider sets the VTTR pin voltage to be equal to half the voltage applied to this input. Channel 2 uses the VTTR pin voltage as its error amplifier reference.", 20 BOOST1 "Boosted Floating Driver Supply for Channel 1. The (+) terminal of the bootstrap capacitor connects to this pin while the (-) terminal connects to the SW pin. The normal operation voltage swing of this pin ranges from a diode (See Datasheet)", 21 VIN1 (power) "Power Supply Input for Channel 1. Input voltage to the on-chip power MOSFETs on channel 1. The internal LDO for INTVCC is powered from this pin.", 22 VIN1 (power) "Power Supply Input for Channel 1. Input voltage to the on-chip power MOSFETs on channel 1. The internal LDO for INTVCC is powered from this pin.", 23 SW1 (power) "Channel 1 Switch Node Connection to External Inductor. Voltage swing of SW is from a diode voltage drop below ground to a diode voltage above VIN1.", 24 SW1 (power) "Channel 1 Switch Node Connection to External Inductor. Voltage swing of SW is from a diode voltage drop below ground to a diode voltage above VIN1.", 25 VON1 (in) "On-Time Voltage Input for Channel 1. This pin sets the voltage trip point for the on-time comparator. Tying this pin to the regulated output voltage makes the on-time proportional to VOUT1 when VOUT1 < 3V. When VOUT1 > 3V, (See Datasheet)", 26 ITH1 "Channel 1 Error Amplifier Output and Switching Regulator Compensation Pin. Connect this pin to appropriate external components to compensate the regulator loop frequency response. See the Applications Information section for (See Datasheet)", 28 VFB1 (in) "Channel 1 Output Feedback Voltage Pin. Input to the error amplifier that compares the feedback voltage to the internal 0.6V reference voltage. Connect this pin to a resistor divider network to program the desired output (See Datasheet)"
part B pins: 6 RUN2 (in) "Channel 2 Regulator Enable Pin. Enables channel 2 operation by tying RUN2 above 1.22V. Tying it below 1V places the part into shutdown. Do not float this pin.", 8 PGOOD2 (oc) "Channel 2 Open-Drain Power Good Output Pin. PGOOD2 is pulled to ground when the voltage on the VFB2 pin is not within 8% (typical) of VDDQIN * 0.5. This threshold has 15mV of hysteresis.", 9 VFB2 (in) "Channel 2 Output Feedback Voltage Pin. Input to the error amplifier that compares the feedback voltage to VTTR. Connect this pin directly to the output in order to set VOUT2 equal to VTTR.", 11 ITH2 "Channel 2 Error Amplifier Output and Switching Regulator Compensation Pin. Connect this pin to appropriate external components to compensate the regulator loop frequency response. See the Applications Information section for (See Datasheet)", 12 VON2 (in) "On-Time Voltage Input for Channel 2. This pin sets the voltage trip point for the on-time comparator. Tying this pin to the output voltage makes the on-time proportional to VOUT2 when VOUT2 < 3V. When VOUT2 > 3V, switching (See Datasheet)", 13 SW2 (power) "Channel 2 Switch Node Connection to External Inductor. Voltage swing of SW is from a diode voltage below ground to a diode voltage above VIN2.", 14 SW2 (power) "Channel 2 Switch Node Connection to External Inductor. Voltage swing of SW is from a diode voltage below ground to a diode voltage above VIN2.", 15 VIN2 (power) "Power Supply Input for Channel 2. Input voltage to the on-chip power MOSFETs on channel 2. This input is capable of operating from a supply voltage separate from VIN1.", 16 VIN2 (power) "Power Supply Input for Channel 2. Input voltage to the on-chip power MOSFETs on channel 2. This input is capable of operating from a supply voltage separate from VIN1.", 17 BOOST2 "Boosted Floating Driver Supply for Channel 2. The (+) terminal of the bootstrap capacitor connects to this pin while the (-) terminal connects to the SW pin. The normal operation voltage swing of this pin ranges from a diode (See Datasheet)"
part C pins: 2 PHMODE (in) "Phase Select Input. Tie this pin to ground to force both channels to switch 90degrees out-of-phase. Tie this pin to INTVCC to force both channels to switch 180degrees out-of-phase. Do not float this pin.", 4 MODE/SYNC (in) "Channel 1 Mode Select and External Synchronization Input. Tie this pin to ground to force continuous synchronous operation on Channel 1. Floating this pin or tying it to INTVCC enables high efficiency Burst Mode(R) operation (See Datasheet)", 5 RT "Oscillator Frequency Program Pin. Connect an external resistor (between 80k to 640k) from this pin to SGND in order to program the frequency from 500kHz to 4MHz. When RT is tied to INTVCC, the switching frequency will (See Datasheet)", 7 SGND (power) "Signal Ground Pin. This pin should have a low noise connection to reference ground. The feedback resistor network, external compensation network, and RT resistor should be connected to this ground.", 18 VTTR (out) "Reference Output. This output is used to supply the VREF voltage for DDR memory. An onchip buffer amplifier outputs a low noise reference voltage equal to VDDQIN/2. This output is capable of supplying 10mA. The buffer output (See Datasheet)", 19 INTVCC (power) "Internal 3.3V Regulator Output. The internal gate drivers and control circuits are powered from this voltage. Decouple this pin to power ground with a minimum of 1uF low ESR ceramic capacitor", 27 TRACKSS (in) "Output Tracking and Soft-Start Input Pin for Channel 1. Forcing a voltage below 0.6V on this pin bypasses the internal reference input to the error amplifier. The LTC3634 will servo the FB pin to the TRACK voltage. Above 0.(See Datasheet)", 29 EP (power) "Power Ground Pin. The (-) terminal of the input bypass capacitor, CIN, and the (-) terminal of the output capacitor, COUT, should be tied to this pin with a low impedance connection. This pin must be soldered to the PCB to (See Datasheet)"

## LTC3639EMSE#PBF
designator U?
High Efficiency, 100 mA Synchronous Step-Down Regulator, 16-pin SOP (MSE-16-V(12)4PR-EDP), -40 to 125 degC, Pb-Free; Manufacturer: Linear Technology; PartNumber: LTC3639EMSE#PBF; Number of Outputs: 1; PackageReference: MSE-16; PackageDescription: 12-Pin Plastic MSOP, Exposed Die Pad, Body 4.039 x 3 mm, Pitch 0.5 mm; Supplier 1: Digi-Key; Supplier Part Number 1: LTC3639EMSE#PBF-ND; RoHS: TRUE
footprint LT-MSE-16-V(12)4PR-EDP_N (SOP, 12-Leads, Body 4.1x3.1mm, Pitch 0.5mm, Thermal Pad 1.76x2.95mm, IPC Medium Density)
footprint LT-MSE-16-V(12)4PR-EDP_L (SOP, 12-Leads, Body 4.1x3.1mm, Pitch 0.5mm, Thermal Pad 1.76x2.95mm, IPC High Density)
footprint LT-MSE-16-V(12)4PR-EDP_M (SOP, 12-Leads, Body 4.1x3.1mm, Pitch 0.5mm, Thermal Pad 1.76x2.95mm, IPC Low Density)
pins: 1 SW (power) "Switch Node Connection to Inductor. This pin connects to the drains of the internal power MOSFET switches.", 3 VIN (power) "Main Supply Pin. A ceramic bypass capacitor should be tied between this pin and GND.", 5 FBO (out) "Feedback Comparator Output. Connect to the VFB pins of additional LTC3639s to combine the output current. The typical pull-up current is 20uA. The typical pulldown impedance is 70ohm. See Applications Information.", 6 VPRG2 (in) "Output Voltage Selection. Short both pins to ground for a resistive divider programmable output voltage. Short VPRG1 to SS and short VPRG2 to ground for a 5V output voltage. Short VPRG1 to ground and short VPRG2 to SS for a (See Datasheet)", 7 VPRG1 (in) "Output Voltage Selection. Short both pins to ground for a resistive divider programmable output voltage. Short VPRG1 to SS and short VPRG2 to ground for a 5V output voltage. Short VPRG1 to ground and short VPRG2 to SS for a (See Datasheet)", 8 GND (power) "Ground.", 9 VFB (in) "Output Voltage Feedback. When configured for an adjustable output voltage, connect to an external resistive divider to divide the output voltage down for comparison to the 0.8V reference. For the fixed output configuration, (See Datasheet)", 10 SS (in) "Soft-Start Control Input. A capacitor to ground at this pin sets the output voltage ramp time. A 50uA current initially charges the soft-start capacitor until switching begins, at which time the current is reduced to its (See Datasheet)", 11 ISET (in) "Peak Current Set Input. A resistor from this pin to ground sets the peak current comparator threshold. Leave floating for the maximum peak current (230mA typical) or short to ground for minimum peak current (25mA typical). (See Datasheet)", 12 OVLO (in) "Overvoltage Lockout Input. Connect to the input supply through a resistor divider to set the overvoltage lockout level. A voltage on this pin above 1.21V disables the internal MOSFET switches. Normal operation resumes when (See Datasheet)", 14 RUN (in) "Run Control Input. A voltage on this pin above 1.21V enables normal operation. Forcing this pin below 0.7V shuts down the LTC3639, reducing quiescent current to approximately 1.4uA. Optionally, connect to the input supply (See Datasheet)", 16 GND (power) "Ground.", 17 EP (power) "Ground. The exposed pad must be soldered to the PCB ground plane for rated thermal performance."

## LTC3639EMSE#TRPBF
designator U?
High Efficiency, 100 mA Synchronous Step-Down Regulator, 16-pin SOP (MSE-16-V(12)4PR-EDP), -40 to 125 degC, Pb-Free, Tape and Reel; Manufacturer: Linear Technology; PartNumber: LTC3639EMSE#TRPBF; Number of Outputs: 1; PackageReference: MSE-16; PackageDescription: 12-Pin Plastic MSOP, Exposed Die Pad, Body 4.039 x 3 mm, Pitch 0.5 mm; Supplier 1: Digi-Key; Supplier Part Number 1: LTC3639EMSE#TRPBF-ND; RoHS: TRUE
footprint LT-MSE-16-V(12)4PR-EDP_N (SOP, 12-Leads, Body 4.1x3.1mm, Pitch 0.5mm, Thermal Pad 1.76x2.95mm, IPC Medium Density)
footprint LT-MSE-16-V(12)4PR-EDP_L (SOP, 12-Leads, Body 4.1x3.1mm, Pitch 0.5mm, Thermal Pad 1.76x2.95mm, IPC High Density)
footprint LT-MSE-16-V(12)4PR-EDP_M (SOP, 12-Leads, Body 4.1x3.1mm, Pitch 0.5mm, Thermal Pad 1.76x2.95mm, IPC Low Density)
pins: 1 SW (power) "Switch Node Connection to Inductor. This pin connects to the drains of the internal power MOSFET switches.", 3 VIN (power) "Main Supply Pin. A ceramic bypass capacitor should be tied between this pin and GND.", 5 FBO (out) "Feedback Comparator Output. Connect to the VFB pins of additional LTC3639s to combine the output current. The typical pull-up current is 20uA. The typical pulldown impedance is 70ohm. See Applications Information.", 6 VPRG2 (in) "Output Voltage Selection. Short both pins to ground for a resistive divider programmable output voltage. Short VPRG1 to SS and short VPRG2 to ground for a 5V output voltage. Short VPRG1 to ground and short VPRG2 to SS for a (See Datasheet)", 7 VPRG1 (in) "Output Voltage Selection. Short both pins to ground for a resistive divider programmable output voltage. Short VPRG1 to SS and short VPRG2 to ground for a 5V output voltage. Short VPRG1 to ground and short VPRG2 to SS for a (See Datasheet)", 8 GND (power) "Ground.", 9 VFB (in) "Output Voltage Feedback. When configured for an adjustable output voltage, connect to an external resistive divider to divide the output voltage down for comparison to the 0.8V reference. For the fixed output configuration, (See Datasheet)", 10 SS (in) "Soft-Start Control Input. A capacitor to ground at this pin sets the output voltage ramp time. A 50uA current initially charges the soft-start capacitor until switching begins, at which time the current is reduced to its (See Datasheet)", 11 ISET (in) "Peak Current Set Input. A resistor from this pin to ground sets the peak current comparator threshold. Leave floating for the maximum peak current (230mA typical) or short to ground for minimum peak current (25mA typical). (See Datasheet)", 12 OVLO (in) "Overvoltage Lockout Input. Connect to the input supply through a resistor divider to set the overvoltage lockout level. A voltage on this pin above 1.21V disables the internal MOSFET switches. Normal operation resumes when (See Datasheet)", 14 RUN (in) "Run Control Input. A voltage on this pin above 1.21V enables normal operation. Forcing this pin below 0.7V shuts down the LTC3639, reducing quiescent current to approximately 1.4uA. Optionally, connect to the input supply (See Datasheet)", 16 GND (power) "Ground.", 17 EP (power) "Ground. The exposed pad must be soldered to the PCB ground plane for rated thermal performance."